# Altium integrated library VCNL4040M3OE.IntLib: 1 symbol
Pins are listed as number, name and electrical type; pins without a type are passive.

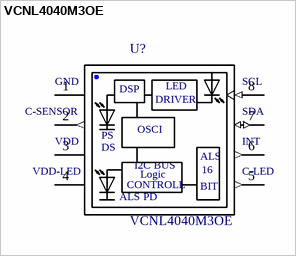
[diagram p0: symbol VCNL4040M3OE]

## VCNL4040M3OE
designator U?
/ VCNL4040 Series 3.6 V 200 mm 16 Bit I2C SMT Proximity and Ambient Light Sensor /; MF: Vishay; SnapEDA_Link: https://www.snapeda.com/parts/VCNL4040M3OE/Vishay%20Semiconductor%20Opto%20Division/view-part/?ref=snap; Availability: Unavailable; Price: None; MP: VCNL4040M3OE; Package: SMD-8 Vishay; Value: *
footprint *VISHAY_VCNL4040_4X2X1.1
pins: 1 GND (power), 2 C-SENSOR (out), 3 VDD (power), 4 VDD-LED (power), 5 C-LED (out), 6 INT (out), 7 SDA (io), 8 SCL (in)
text: DSP; LED; DRIVER; PS; OSCI; DS; ALS; I2C BUS; 16; Logic; CONTROLL; BIT; PD